# EAGLE library part PSOC4200_REMAP (library HuskyRobotics2017-18)
Description: This is device is a Cypress PSoC 4200-L series device in a TQFP64 (10mm) package. Created for Husky Robotics team at UW, 2017-2018 team. Contact: Dylan Tomberlin tomberln@uw.edu Know Issues: Name defaults to G$1, need help to change default name Power / IO labels may be incorrect, specifically "VDDIO", which in the online example was listed as just in, and "VSSIO".
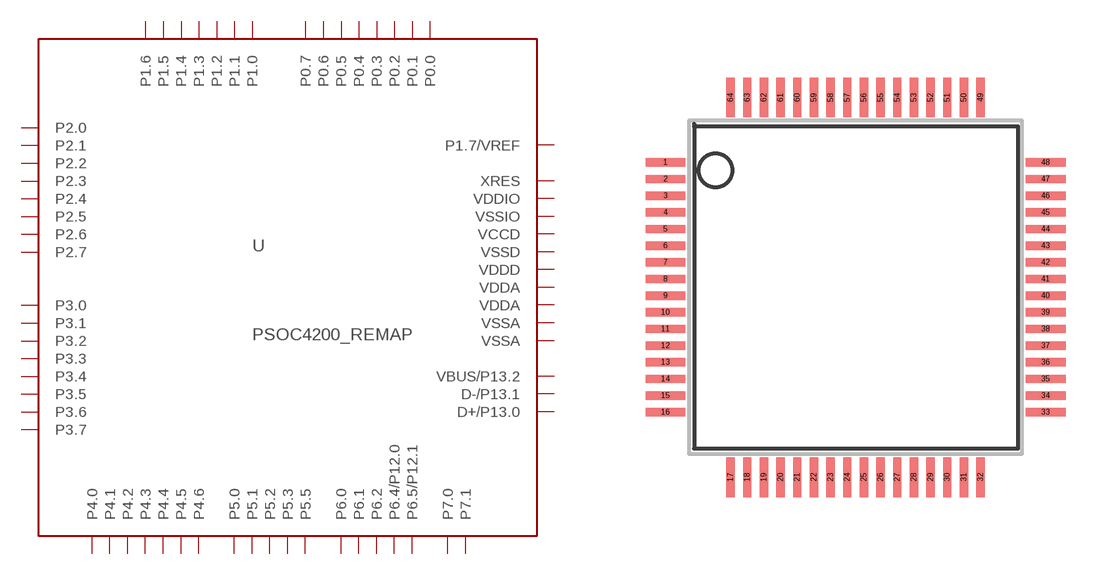
[diagram p8: symbol with the pads of TQPF64-10MM; footprint TQPF64-10MM]

Designator prefix U

## PSOC4200_REMAPTQFN  [TQPF64-10MM]
1  P1.7/VREF
2  P2.0
3  P2.1
4  P2.2
5  P2.3
6  P2.4
7  P2.5
8  P2.6
9  P2.7
10  VSSA  pwr
11  VDDA  pwr
12  P6.0
13  P6.1
14  P6.2
15  P6.4/P12.0
16  P6.5/P12.1
17  VSSIO  pwr
18  P3.0
19  P3.1
20  P3.2
21  P3.3
22  P3.4
23  P3.5
24  P3.6
25  P3.7
26  VDDIO  pwr
27  P4.0
28  P4.1
29  P4.2
30  P4.3
31  P4.4
32  P4.5
33  P4.6
34  D+/P13.0
35  D-/P13.1
36  VBUS/P13.2
37  P7.0
38  P7.1
39  P0.0
40  P0.1
41  P0.2
42  P0.3
43  P0.4
44  P0.5
45  P0.6
46  P0.7
47  XRES  in
48  VCCD  pwr
49  VSSD  pwr
50  VDDD  pwr
51  P5.0
52  P5.1
53  P5.2
54  P5.3
55  P5.5
56  VDDA  pwr
57  VSSA
58  P1.0
59  P1.1
60  P1.2
61  P1.3
62  P1.4
63  P1.5
64  P1.6

## Footprint TQPF64-10MM (pad centres in mm)
Description: Package is untested, created for Cypress PSoC 4200 L device CY8C4247AZI-L485
smd 1.2 x 0.25: 1 -5.7,3.75; 2 -5.7,3.25; 3 -5.7,2.75; 4 -5.7,2.25; 5 -5.7,1.75; 6 -5.7,1.25; 7 -5.7,0.75; 8 -5.7,0.25; 9 -5.7,-0.25; 10 -5.7,-0.75; 11 -5.7,-1.25; 12 -5.7,-1.75; 13 -5.7,-2.25; 14 -5.7,-2.75; 15 -5.7,-3.25; 16 -5.7,-3.75; 33 5.7,-3.75; 34 5.7,-3.25; 35 5.7,-2.75; 36 5.7,-2.25; 37 5.7,-1.75; 38 5.7,-1.25; 39 5.7,-0.75; 40 5.7,-0.25; 41 5.7,0.25; 42 5.7,0.75; 43 5.7,1.25; 44 5.7,1.75; 45 5.7,2.25; 46 5.7,2.75; 47 5.7,3.25; 48 5.7,3.75
smd 0.25 x 1.2: 17 -3.75,-5.7; 18 -3.25,-5.7; 19 -2.75,-5.7; 20 -2.25,-5.7; 21 -1.75,-5.7; 22 -1.25,-5.7; 23 -0.75,-5.7; 24 -0.25,-5.7; 25 0.25,-5.7; 26 0.75,-5.7; 27 1.25,-5.7; 28 1.75,-5.7; 29 2.25,-5.7; 30 2.75,-5.7; 31 3.25,-5.7; 32 3.75,-5.7; 49 3.75,5.7; 50 3.25,5.7; 51 2.75,5.7; 52 2.25,5.7; 53 1.75,5.7; 54 1.25,5.7; 55 0.75,5.7; 56 0.25,5.7; 57 -0.25,5.7; 58 -0.75,5.7; 59 -1.25,5.7; 60 -1.75,5.7; 61 -2.25,5.7; 62 -2.75,5.7; 63 -3.25,5.7; 64 -3.75,5.7